# Altium footprint library TerminalBlock_RND.PcbLib: 132 footprints (part 4 of 9)
Each footprint in its own frame and in the unit in brackets; x right, y up, seen from the top. Pads: shape width x height; smd on the part's side, far side on the other; paste and mask are expansions set on the pad; w line width, h text height; cw(c..) or ccw(c..) is an arc to the next point about the centre after c.
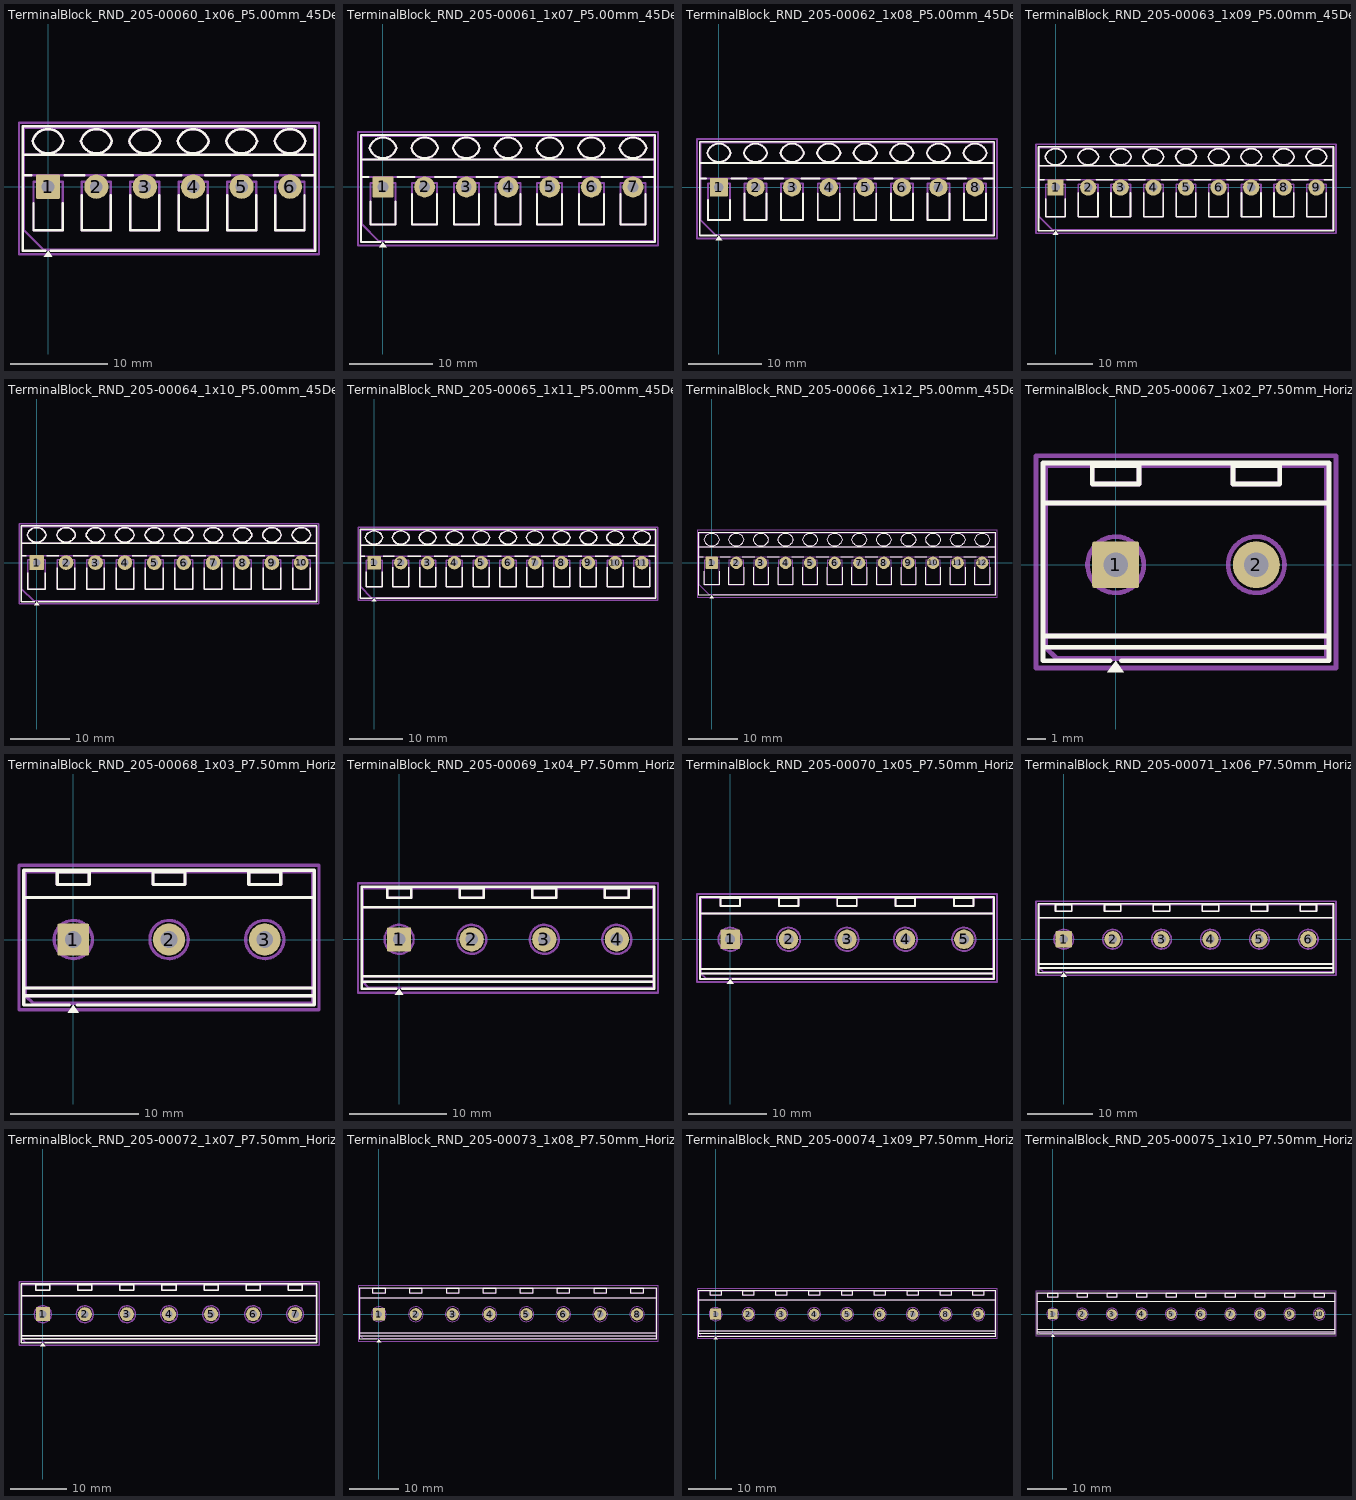
[diagram p3: the footprints below, top view; thin cyan lines are the x and y axes]

## TerminalBlock_RND_205-00060_1x06_P5.00mm_45Degree [mm]
pads (6):
  rrect10% 2.5x2.5 hole 1.3: 1(0,0)
  round 2.5 hole 1.3: 2(5,0) 3(10,0) 4(15,0) 5(20,0) 6(25,0)
F.SilkS:
  region: 0.44,-7.23 -0.44,-7.23 0,-6.62
  lines w0.254: -2.62,1.2 -1.73,1.2 ; -2.62,3.3 27.62,3.3 ; -1.5,-1.73 -1.5,-4.5 1.5,-4.5 1.5,-1.73 ; -0.3,-6.62 -2.62,-6.62 -2.62,6.22 27.62,6.22 27.62,-6.62 0.3,-6.62 ; 1.73,1.2 3.754,1.2 ; 3.5,-0.862 3.5,-4.5 6.5,-4.5 6.5,-0.862 ; 6.246,1.2 8.754,1.2 ; 8.5,-0.862 8.5,-4.5 11.5,-4.5 11.5,-0.862 ; 11.246,1.2 13.754,1.2 ; 13.5,-0.862 13.5,-4.5 16.5,-4.5 16.5,-0.862 ; 16.246,1.2 18.754,1.2 ; 18.5,-0.862 18.5,-4.5 21.5,-4.5 21.5,-0.862 ; 21.246,1.2 23.754,1.2 ; 23.5,-0.862 23.5,-4.5 26.5,-4.5 26.5,-0.862 ; 26.246,1.2 27.62,1.2 ; -1.6,4.7 cw(c0,4.301) 1.6,4.7 cw(c0,5.099) -1.6,4.7 ; 3.4,4.7 cw(c5,4.301) 6.6,4.7 cw(c5,5.099) 3.4,4.7 ; 8.4,4.7 cw(c10,4.301) 11.6,4.7 cw(c10,5.099) 8.4,4.7 ; 13.4,4.7 cw(c15,4.301) 16.6,4.7 cw(c15,5.099) 13.4,4.7 ; 18.4,4.7 cw(c20,4.301) 21.6,4.7 cw(c20,5.099) 18.4,4.7 ; 23.4,4.7 cw(c25,4.301) 26.6,4.7 cw(c25,5.099) 23.4,4.7
F.Fab:
  lines w0.254: -2.5,1.2 27.5,1.2 ; -2.5,3.3 27.5,3.3 ; -2.5,-4.5 -2.5,6.1 27.5,6.1 27.5,-6.5 -0.5,-6.5 -2.5,-4.5 ; -1.6,4.7 cw(c0,4.301) 1.6,4.7 cw(c0,5.099) -1.6,4.7 ; -1.5,-4.5 -1.5,0.5 1.5,0.5 1.5,-4.5 -1.5,-4.5 ; 3.4,4.7 cw(c5,4.301) 6.6,4.7 cw(c5,5.099) 3.4,4.7 ; 3.5,-4.5 3.5,0.5 6.5,0.5 6.5,-4.5 3.5,-4.5 ; 8.4,4.7 cw(c10,4.301) 11.6,4.7 cw(c10,5.099) 8.4,4.7 ; 8.5,-4.5 8.5,0.5 11.5,0.5 11.5,-4.5 8.5,-4.5 ; 13.4,4.7 cw(c15,4.301) 16.6,4.7 cw(c15,5.099) 13.4,4.7 ; 13.5,-4.5 13.5,0.5 16.5,0.5 16.5,-4.5 13.5,-4.5 ; 18.4,4.7 cw(c20,4.301) 21.6,4.7 cw(c20,5.099) 18.4,4.7 ; 18.5,-4.5 18.5,0.5 21.5,0.5 21.5,-4.5 18.5,-4.5 ; 23.4,4.7 cw(c25,4.301) 26.6,4.7 cw(c25,5.099) 23.4,4.7 ; 23.5,-4.5 23.5,0.5 26.5,0.5 26.5,-4.5 23.5,-4.5
  text "'.Designator'" at 8.453,-0.04 h1
F.CrtYd:
  lines w0.254: -3,-7 -3,6.6 28,6.6 28,-7 -3,-7

## TerminalBlock_RND_205-00061_1x07_P5.00mm_45Degree [mm]
pads (7):
  rrect10% 2.5x2.5 hole 1.3: 1(0,0)
  round 2.5 hole 1.3: 2(5,0) 3(10,0) 4(15,0) 5(20,0) 6(25,0) 7(30,0)
F.SilkS:
  region: 0.44,-7.23 -0.44,-7.23 0,-6.62
  lines w0.254: -2.62,1.2 -1.73,1.2 ; -2.62,3.3 32.62,3.3 ; -1.5,-1.73 -1.5,-4.5 1.5,-4.5 1.5,-1.73 ; -0.3,-6.62 -2.62,-6.62 -2.62,6.22 32.62,6.22 32.62,-6.62 0.3,-6.62 ; 1.73,1.2 3.754,1.2 ; 3.5,-0.862 3.5,-4.5 6.5,-4.5 6.5,-0.862 ; 6.246,1.2 8.754,1.2 ; 8.5,-0.862 8.5,-4.5 11.5,-4.5 11.5,-0.862 ; 11.246,1.2 13.754,1.2 ; 13.5,-0.862 13.5,-4.5 16.5,-4.5 16.5,-0.862 ; 16.246,1.2 18.754,1.2 ; 18.5,-0.862 18.5,-4.5 21.5,-4.5 21.5,-0.862 ; 21.246,1.2 23.754,1.2 ; 23.5,-0.862 23.5,-4.5 26.5,-4.5 26.5,-0.862 ; 26.246,1.2 28.754,1.2 ; 28.5,-0.862 28.5,-4.5 31.5,-4.5 31.5,-0.862 ; 31.246,1.2 32.62,1.2 ; -1.6,4.7 cw(c0,4.301) 1.6,4.7 cw(c0,5.099) -1.6,4.7 ; 3.4,4.7 cw(c5,4.301) 6.6,4.7 cw(c5,5.099) 3.4,4.7 ; 8.4,4.7 cw(c10,4.301) 11.6,4.7 cw(c10,5.099) 8.4,4.7 ; 13.4,4.7 cw(c15,4.301) 16.6,4.7 cw(c15,5.099) 13.4,4.7 ; 18.4,4.7 cw(c20,4.301) 21.6,4.7 cw(c20,5.099) 18.4,4.7 ; 23.4,4.7 cw(c25,4.301) 26.6,4.7 cw(c25,5.099) 23.4,4.7 ; 28.4,4.7 cw(c30,4.301) 31.6,4.7 cw(c30,5.099) 28.4,4.7
F.Fab:
  lines w0.254: -2.5,1.2 32.5,1.2 ; -2.5,3.3 32.5,3.3 ; -2.5,-4.5 -2.5,6.1 32.5,6.1 32.5,-6.5 -0.5,-6.5 -2.5,-4.5 ; -1.6,4.7 cw(c0,4.301) 1.6,4.7 cw(c0,5.099) -1.6,4.7 ; -1.5,-4.5 -1.5,0.5 1.5,0.5 1.5,-4.5 -1.5,-4.5 ; 3.4,4.7 cw(c5,4.301) 6.6,4.7 cw(c5,5.099) 3.4,4.7 ; 3.5,-4.5 3.5,0.5 6.5,0.5 6.5,-4.5 3.5,-4.5 ; 8.4,4.7 cw(c10,4.301) 11.6,4.7 cw(c10,5.099) 8.4,4.7 ; 8.5,-4.5 8.5,0.5 11.5,0.5 11.5,-4.5 8.5,-4.5 ; 13.4,4.7 cw(c15,4.301) 16.6,4.7 cw(c15,5.099) 13.4,4.7 ; 13.5,-4.5 13.5,0.5 16.5,0.5 16.5,-4.5 13.5,-4.5 ; 18.4,4.7 cw(c20,4.301) 21.6,4.7 cw(c20,5.099) 18.4,4.7 ; 18.5,-4.5 18.5,0.5 21.5,0.5 21.5,-4.5 18.5,-4.5 ; 23.4,4.7 cw(c25,4.301) 26.6,4.7 cw(c25,5.099) 23.4,4.7 ; 23.5,-4.5 23.5,0.5 26.5,0.5 26.5,-4.5 23.5,-4.5 ; 28.4,4.7 cw(c30,4.301) 31.6,4.7 cw(c30,5.099) 28.4,4.7 ; 28.5,-4.5 28.5,0.5 31.5,0.5 31.5,-4.5 28.5,-4.5
  text "'.Designator'" at 10.953,-0.04 h1
F.CrtYd:
  lines w0.254: -3,-7 -3,6.6 33,6.6 33,-7 -3,-7

## TerminalBlock_RND_205-00062_1x08_P5.00mm_45Degree [mm]
pads (8):
  rrect10% 2.5x2.5 hole 1.3: 1(0,0)
  round 2.5 hole 1.3: 2(5,0) 3(10,0) 4(15,0) 5(20,0) 6(25,0) 7(30,0) 8(35,0)
F.SilkS:
  region: 0.44,-7.23 -0.44,-7.23 0,-6.62
  lines w0.254: -2.62,1.2 -1.73,1.2 ; -2.62,3.3 37.62,3.3 ; -1.5,-1.73 -1.5,-4.5 1.5,-4.5 1.5,-1.73 ; -0.3,-6.62 -2.62,-6.62 -2.62,6.22 37.62,6.22 37.62,-6.62 0.3,-6.62 ; 1.73,1.2 3.754,1.2 ; 3.5,-0.862 3.5,-4.5 6.5,-4.5 6.5,-0.862 ; 6.246,1.2 8.754,1.2 ; 8.5,-0.862 8.5,-4.5 11.5,-4.5 11.5,-0.862 ; 11.246,1.2 13.754,1.2 ; 13.5,-0.862 13.5,-4.5 16.5,-4.5 16.5,-0.862 ; 16.246,1.2 18.754,1.2 ; 18.5,-0.862 18.5,-4.5 21.5,-4.5 21.5,-0.862 ; 21.246,1.2 23.754,1.2 ; 23.5,-0.862 23.5,-4.5 26.5,-4.5 26.5,-0.862 ; 26.246,1.2 28.754,1.2 ; 28.5,-0.862 28.5,-4.5 31.5,-4.5 31.5,-0.862 ; 31.246,1.2 33.754,1.2 ; 33.5,-0.862 33.5,-4.5 36.5,-4.5 36.5,-0.862 ; 36.246,1.2 37.62,1.2 ; -1.6,4.7 cw(c0,4.301) 1.6,4.7 cw(c0,5.099) -1.6,4.7 ; 3.4,4.7 cw(c5,4.301) 6.6,4.7 cw(c5,5.099) 3.4,4.7 ; 8.4,4.7 cw(c10,4.301) 11.6,4.7 cw(c10,5.099) 8.4,4.7 ; 13.4,4.7 cw(c15,4.301) 16.6,4.7 cw(c15,5.099) 13.4,4.7 ; 18.4,4.7 cw(c20,4.301) 21.6,4.7 cw(c20,5.099) 18.4,4.7 ; 23.4,4.7 cw(c25,4.301) 26.6,4.7 cw(c25,5.099) 23.4,4.7 ; 28.4,4.7 cw(c30,4.301) 31.6,4.7 cw(c30,5.099) 28.4,4.7 ; 33.4,4.7 cw(c35,4.301) 36.6,4.7 cw(c35,5.099) 33.4,4.7
F.Fab:
  lines w0.254: -2.5,1.2 37.5,1.2 ; -2.5,3.3 37.5,3.3 ; -2.5,-4.5 -2.5,6.1 37.5,6.1 37.5,-6.5 -0.5,-6.5 -2.5,-4.5 ; -1.6,4.7 cw(c0,4.301) 1.6,4.7 cw(c0,5.099) -1.6,4.7 ; -1.5,-4.5 -1.5,0.5 1.5,0.5 1.5,-4.5 -1.5,-4.5 ; 3.4,4.7 cw(c5,4.301) 6.6,4.7 cw(c5,5.099) 3.4,4.7 ; 3.5,-4.5 3.5,0.5 6.5,0.5 6.5,-4.5 3.5,-4.5 ; 8.4,4.7 cw(c10,4.301) 11.6,4.7 cw(c10,5.099) 8.4,4.7 ; 8.5,-4.5 8.5,0.5 11.5,0.5 11.5,-4.5 8.5,-4.5 ; 13.4,4.7 cw(c15,4.301) 16.6,4.7 cw(c15,5.099) 13.4,4.7 ; 13.5,-4.5 13.5,0.5 16.5,0.5 16.5,-4.5 13.5,-4.5 ; 18.4,4.7 cw(c20,4.301) 21.6,4.7 cw(c20,5.099) 18.4,4.7 ; 18.5,-4.5 18.5,0.5 21.5,0.5 21.5,-4.5 18.5,-4.5 ; 23.4,4.7 cw(c25,4.301) 26.6,4.7 cw(c25,5.099) 23.4,4.7 ; 23.5,-4.5 23.5,0.5 26.5,0.5 26.5,-4.5 23.5,-4.5 ; 28.4,4.7 cw(c30,4.301) 31.6,4.7 cw(c30,5.099) 28.4,4.7 ; 28.5,-4.5 28.5,0.5 31.5,0.5 31.5,-4.5 28.5,-4.5 ; 33.4,4.7 cw(c35,4.301) 36.6,4.7 cw(c35,5.099) 33.4,4.7 ; 33.5,-4.5 33.5,0.5 36.5,0.5 36.5,-4.5 33.5,-4.5
  text "'.Designator'" at 13.453,-0.04 h1
F.CrtYd:
  lines w0.254: -3,-7 -3,6.6 38,6.6 38,-7 -3,-7

## TerminalBlock_RND_205-00063_1x09_P5.00mm_45Degree [mm]
pads (9):
  rrect10% 2.5x2.5 hole 1.3: 1(0,0)
  round 2.5 hole 1.3: 2(5,0) 3(10,0) 4(15,0) 5(20,0) 6(25,0) 7(30,0) 8(35,0) 9(40,0)
F.SilkS:
  region: 0.44,-7.23 -0.44,-7.23 0,-6.62
  lines w0.254: -2.62,1.2 -1.73,1.2 ; -2.62,3.3 42.62,3.3 ; -1.5,-1.73 -1.5,-4.5 1.5,-4.5 1.5,-1.73 ; -0.3,-6.62 -2.62,-6.62 -2.62,6.22 42.62,6.22 42.62,-6.62 0.3,-6.62 ; 1.73,1.2 3.754,1.2 ; 3.5,-0.862 3.5,-4.5 6.5,-4.5 6.5,-0.862 ; 6.246,1.2 8.754,1.2 ; 8.5,-0.862 8.5,-4.5 11.5,-4.5 11.5,-0.862 ; 11.246,1.2 13.754,1.2 ; 13.5,-0.862 13.5,-4.5 16.5,-4.5 16.5,-0.862 ; 16.246,1.2 18.754,1.2 ; 18.5,-0.862 18.5,-4.5 21.5,-4.5 21.5,-0.862 ; 21.246,1.2 23.754,1.2 ; 23.5,-0.862 23.5,-4.5 26.5,-4.5 26.5,-0.862 ; 26.246,1.2 28.754,1.2 ; 28.5,-0.862 28.5,-4.5 31.5,-4.5 31.5,-0.862 ; 31.246,1.2 33.754,1.2 ; 33.5,-0.862 33.5,-4.5 36.5,-4.5 36.5,-0.862 ; 36.246,1.2 38.754,1.2 ; 38.5,-0.862 38.5,-4.5 41.5,-4.5 41.5,-0.862 ; 41.246,1.2 42.62,1.2 ; -1.6,4.7 cw(c0,4.301) 1.6,4.7 cw(c0,5.099) -1.6,4.7 ; 3.4,4.7 cw(c5,4.301) 6.6,4.7 cw(c5,5.099) 3.4,4.7 ; 8.4,4.7 cw(c10,4.301) 11.6,4.7 cw(c10,5.099) 8.4,4.7 ; 13.4,4.7 cw(c15,4.301) 16.6,4.7 cw(c15,5.099) 13.4,4.7 ; 18.4,4.7 cw(c20,4.301) 21.6,4.7 cw(c20,5.099) 18.4,4.7 ; 23.4,4.7 cw(c25,4.301) 26.6,4.7 cw(c25,5.099) 23.4,4.7 ; 28.4,4.7 cw(c30,4.301) 31.6,4.7 cw(c30,5.099) 28.4,4.7 ; 33.4,4.7 cw(c35,4.301) 36.6,4.7 cw(c35,5.099) 33.4,4.7 ; 38.4,4.7 cw(c40,4.301) 41.6,4.7 cw(c40,5.099) 38.4,4.7
F.Fab:
  lines w0.254: -2.5,1.2 42.5,1.2 ; -2.5,3.3 42.5,3.3 ; -2.5,-4.5 -2.5,6.1 42.5,6.1 42.5,-6.5 -0.5,-6.5 -2.5,-4.5 ; -1.6,4.7 cw(c0,4.301) 1.6,4.7 cw(c0,5.099) -1.6,4.7 ; -1.5,-4.5 -1.5,0.5 1.5,0.5 1.5,-4.5 -1.5,-4.5 ; 3.4,4.7 cw(c5,4.301) 6.6,4.7 cw(c5,5.099) 3.4,4.7 ; 3.5,-4.5 3.5,0.5 6.5,0.5 6.5,-4.5 3.5,-4.5 ; 8.4,4.7 cw(c10,4.301) 11.6,4.7 cw(c10,5.099) 8.4,4.7 ; 8.5,-4.5 8.5,0.5 11.5,0.5 11.5,-4.5 8.5,-4.5 ; 13.4,4.7 cw(c15,4.301) 16.6,4.7 cw(c15,5.099) 13.4,4.7 ; 13.5,-4.5 13.5,0.5 16.5,0.5 16.5,-4.5 13.5,-4.5 ; 18.4,4.7 cw(c20,4.301) 21.6,4.7 cw(c20,5.099) 18.4,4.7 ; 18.5,-4.5 18.5,0.5 21.5,0.5 21.5,-4.5 18.5,-4.5 ; 23.4,4.7 cw(c25,4.301) 26.6,4.7 cw(c25,5.099) 23.4,4.7 ; 23.5,-4.5 23.5,0.5 26.5,0.5 26.5,-4.5 23.5,-4.5 ; 28.4,4.7 cw(c30,4.301) 31.6,4.7 cw(c30,5.099) 28.4,4.7 ; 28.5,-4.5 28.5,0.5 31.5,0.5 31.5,-4.5 28.5,-4.5 ; 33.4,4.7 cw(c35,4.301) 36.6,4.7 cw(c35,5.099) 33.4,4.7 ; 33.5,-4.5 33.5,0.5 36.5,0.5 36.5,-4.5 33.5,-4.5 ; 38.4,4.7 cw(c40,4.301) 41.6,4.7 cw(c40,5.099) 38.4,4.7 ; 38.5,-4.5 38.5,0.5 41.5,0.5 41.5,-4.5 38.5,-4.5
  text "'.Designator'" at 15.953,-0.04 h1
F.CrtYd:
  lines w0.254: -3,-7 -3,6.6 43,6.6 43,-7 -3,-7

## TerminalBlock_RND_205-00064_1x10_P5.00mm_45Degree [mm]
pads (10):
  rrect10% 2.5x2.5 hole 1.3: 1(0,0)
  round 2.5 hole 1.3: 2(5,0) 3(10,0) 4(15,0) 5(20,0) 6(25,0) 7(30,0) 8(35,0) 9(40,0) 10(45,0)
F.SilkS:
  region: 0.44,-7.23 -0.44,-7.23 0,-6.62
  lines w0.254: -2.62,1.2 -1.73,1.2 ; -2.62,3.3 47.62,3.3 ; -1.5,-1.73 -1.5,-4.5 1.5,-4.5 1.5,-1.73 ; -0.3,-6.62 -2.62,-6.62 -2.62,6.22 47.62,6.22 47.62,-6.62 0.3,-6.62 ; 1.73,1.2 3.754,1.2 ; 3.5,-0.862 3.5,-4.5 6.5,-4.5 6.5,-0.862 ; 6.246,1.2 8.754,1.2 ; 8.5,-0.862 8.5,-4.5 11.5,-4.5 11.5,-0.862 ; 11.246,1.2 13.754,1.2 ; 13.5,-0.862 13.5,-4.5 16.5,-4.5 16.5,-0.862 ; 16.246,1.2 18.754,1.2 ; 18.5,-0.862 18.5,-4.5 21.5,-4.5 21.5,-0.862 ; 21.246,1.2 23.754,1.2 ; 23.5,-0.862 23.5,-4.5 26.5,-4.5 26.5,-0.862 ; 26.246,1.2 28.754,1.2 ; 28.5,-0.862 28.5,-4.5 31.5,-4.5 31.5,-0.862 ; 31.246,1.2 33.754,1.2 ; 33.5,-0.862 33.5,-4.5 36.5,-4.5 36.5,-0.862 ; 36.246,1.2 38.754,1.2 ; 38.5,-0.862 38.5,-4.5 41.5,-4.5 41.5,-0.862 ; 41.246,1.2 43.754,1.2 ; 43.5,-0.862 43.5,-4.5 46.5,-4.5 46.5,-0.862 ; 46.246,1.2 47.62,1.2 ; -1.6,4.7 cw(c0,4.301) 1.6,4.7 cw(c0,5.099) -1.6,4.7 ; 3.4,4.7 cw(c5,4.301) 6.6,4.7 cw(c5,5.099) 3.4,4.7 ; 8.4,4.7 cw(c10,4.301) 11.6,4.7 cw(c10,5.099) 8.4,4.7 ; 13.4,4.7 cw(c15,4.301) 16.6,4.7 cw(c15,5.099) 13.4,4.7 ; 18.4,4.7 cw(c20,4.301) 21.6,4.7 cw(c20,5.099) 18.4,4.7 ; 23.4,4.7 cw(c25,4.301) 26.6,4.7 cw(c25,5.099) 23.4,4.7 ; 28.4,4.7 cw(c30,4.301) 31.6,4.7 cw(c30,5.099) 28.4,4.7 ; 33.4,4.7 cw(c35,4.301) 36.6,4.7 cw(c35,5.099) 33.4,4.7 ; 38.4,4.7 cw(c40,4.301) 41.6,4.7 cw(c40,5.099) 38.4,4.7 ; 43.4,4.7 cw(c45,4.301) 46.6,4.7 cw(c45,5.099) 43.4,4.7
F.Fab:
  lines w0.254: -2.5,1.2 47.5,1.2 ; -2.5,3.3 47.5,3.3 ; -2.5,-4.5 -2.5,6.1 47.5,6.1 47.5,-6.5 -0.5,-6.5 -2.5,-4.5 ; -1.6,4.7 cw(c0,4.301) 1.6,4.7 cw(c0,5.099) -1.6,4.7 ; -1.5,-4.5 -1.5,0.5 1.5,0.5 1.5,-4.5 -1.5,-4.5 ; 3.4,4.7 cw(c5,4.301) 6.6,4.7 cw(c5,5.099) 3.4,4.7 ; 3.5,-4.5 3.5,0.5 6.5,0.5 6.5,-4.5 3.5,-4.5 ; 8.4,4.7 cw(c10,4.301) 11.6,4.7 cw(c10,5.099) 8.4,4.7 ; 8.5,-4.5 8.5,0.5 11.5,0.5 11.5,-4.5 8.5,-4.5 ; 13.4,4.7 cw(c15,4.301) 16.6,4.7 cw(c15,5.099) 13.4,4.7 ; 13.5,-4.5 13.5,0.5 16.5,0.5 16.5,-4.5 13.5,-4.5 ; 18.4,4.7 cw(c20,4.301) 21.6,4.7 cw(c20,5.099) 18.4,4.7 ; 18.5,-4.5 18.5,0.5 21.5,0.5 21.5,-4.5 18.5,-4.5 ; 23.4,4.7 cw(c25,4.301) 26.6,4.7 cw(c25,5.099) 23.4,4.7 ; 23.5,-4.5 23.5,0.5 26.5,0.5 26.5,-4.5 23.5,-4.5 ; 28.4,4.7 cw(c30,4.301) 31.6,4.7 cw(c30,5.099) 28.4,4.7 ; 28.5,-4.5 28.5,0.5 31.5,0.5 31.5,-4.5 28.5,-4.5 ; 33.4,4.7 cw(c35,4.301) 36.6,4.7 cw(c35,5.099) 33.4,4.7 ; 33.5,-4.5 33.5,0.5 36.5,0.5 36.5,-4.5 33.5,-4.5 ; 38.4,4.7 cw(c40,4.301) 41.6,4.7 cw(c40,5.099) 38.4,4.7 ; 38.5,-4.5 38.5,0.5 41.5,0.5 41.5,-4.5 38.5,-4.5 ; 43.4,4.7 cw(c45,4.301) 46.6,4.7 cw(c45,5.099) 43.4,4.7 ; 43.5,-4.5 43.5,0.5 46.5,0.5 46.5,-4.5 43.5,-4.5
  text "'.Designator'" at 18.453,-0.04 h1
F.CrtYd:
  lines w0.254: -3,-7 -3,6.6 48,6.6 48,-7 -3,-7

## TerminalBlock_RND_205-00065_1x11_P5.00mm_45Degree [mm]
pads (11):
  rrect10% 2.5x2.5 hole 1.3: 1(0,0)
  round 2.5 hole 1.3: 2(5,0) 3(10,0) 4(15,0) 5(20,0) 6(25,0) 7(30,0) 8(35,0) 9(40,0) 10(45,0) 11(50,0)
F.SilkS:
  region: 0.44,-7.23 -0.44,-7.23 0,-6.62
  lines w0.254: -2.62,1.2 -1.73,1.2 ; -2.62,3.3 52.62,3.3 ; -1.5,-1.73 -1.5,-4.5 1.5,-4.5 1.5,-1.73 ; -0.3,-6.62 -2.62,-6.62 -2.62,6.22 52.62,6.22 52.62,-6.62 0.3,-6.62 ; 1.73,1.2 3.754,1.2 ; 3.5,-0.862 3.5,-4.5 6.5,-4.5 6.5,-0.862 ; 6.246,1.2 8.754,1.2 ; 8.5,-0.862 8.5,-4.5 11.5,-4.5 11.5,-0.862 ; 11.246,1.2 13.754,1.2 ; 13.5,-0.862 13.5,-4.5 16.5,-4.5 16.5,-0.862 ; 16.246,1.2 18.754,1.2 ; 18.5,-0.862 18.5,-4.5 21.5,-4.5 21.5,-0.862 ; 21.246,1.2 23.754,1.2 ; 23.5,-0.862 23.5,-4.5 26.5,-4.5 26.5,-0.862 ; 26.246,1.2 28.754,1.2 ; 28.5,-0.862 28.5,-4.5 31.5,-4.5 31.5,-0.862 ; 31.246,1.2 33.754,1.2 ; 33.5,-0.862 33.5,-4.5 36.5,-4.5 36.5,-0.862 ; 36.246,1.2 38.754,1.2 ; 38.5,-0.862 38.5,-4.5 41.5,-4.5 41.5,-0.862 ; 41.246,1.2 43.754,1.2 ; 43.5,-0.862 43.5,-4.5 46.5,-4.5 46.5,-0.862 ; 46.246,1.2 48.754,1.2 ; 48.5,-0.862 48.5,-4.5 51.5,-4.5 51.5,-0.862 ; 51.246,1.2 52.62,1.2 ; -1.6,4.7 cw(c0,4.301) 1.6,4.7 cw(c0,5.099) -1.6,4.7 ; 3.4,4.7 cw(c5,4.301) 6.6,4.7 cw(c5,5.099) 3.4,4.7 ; 8.4,4.7 cw(c10,4.301) 11.6,4.7 cw(c10,5.099) 8.4,4.7 ; 13.4,4.7 cw(c15,4.301) 16.6,4.7 cw(c15,5.099) 13.4,4.7 ; 18.4,4.7 cw(c20,4.301) 21.6,4.7 cw(c20,5.099) 18.4,4.7 ; 23.4,4.7 cw(c25,4.301) 26.6,4.7 cw(c25,5.099) 23.4,4.7 ; 28.4,4.7 cw(c30,4.301) 31.6,4.7 cw(c30,5.099) 28.4,4.7 ; 33.4,4.7 cw(c35,4.301) 36.6,4.7 cw(c35,5.099) 33.4,4.7 ; 38.4,4.7 cw(c40,4.301) 41.6,4.7 cw(c40,5.099) 38.4,4.7 ; 43.4,4.7 cw(c45,4.301) 46.6,4.7 cw(c45,5.099) 43.4,4.7 ; 48.4,4.7 cw(c50,4.301) 51.6,4.7 cw(c50,5.099) 48.4,4.7
F.Fab:
  lines w0.254: -2.5,1.2 52.5,1.2 ; -2.5,3.3 52.5,3.3 ; -2.5,-4.5 -2.5,6.1 52.5,6.1 52.5,-6.5 -0.5,-6.5 -2.5,-4.5 ; -1.6,4.7 cw(c0,4.301) 1.6,4.7 cw(c0,5.099) -1.6,4.7 ; -1.5,-4.5 -1.5,0.5 1.5,0.5 1.5,-4.5 -1.5,-4.5 ; 3.4,4.7 cw(c5,4.301) 6.6,4.7 cw(c5,5.099) 3.4,4.7 ; 3.5,-4.5 3.5,0.5 6.5,0.5 6.5,-4.5 3.5,-4.5 ; 8.4,4.7 cw(c10,4.301) 11.6,4.7 cw(c10,5.099) 8.4,4.7 ; 8.5,-4.5 8.5,0.5 11.5,0.5 11.5,-4.5 8.5,-4.5 ; 13.4,4.7 cw(c15,4.301) 16.6,4.7 cw(c15,5.099) 13.4,4.7 ; 13.5,-4.5 13.5,0.5 16.5,0.5 16.5,-4.5 13.5,-4.5 ; 18.4,4.7 cw(c20,4.301) 21.6,4.7 cw(c20,5.099) 18.4,4.7 ; 18.5,-4.5 18.5,0.5 21.5,0.5 21.5,-4.5 18.5,-4.5 ; 23.4,4.7 cw(c25,4.301) 26.6,4.7 cw(c25,5.099) 23.4,4.7 ; 23.5,-4.5 23.5,0.5 26.5,0.5 26.5,-4.5 23.5,-4.5 ; 28.4,4.7 cw(c30,4.301) 31.6,4.7 cw(c30,5.099) 28.4,4.7 ; 28.5,-4.5 28.5,0.5 31.5,0.5 31.5,-4.5 28.5,-4.5 ; 33.4,4.7 cw(c35,4.301) 36.6,4.7 cw(c35,5.099) 33.4,4.7 ; 33.5,-4.5 33.5,0.5 36.5,0.5 36.5,-4.5 33.5,-4.5 ; 38.4,4.7 cw(c40,4.301) 41.6,4.7 cw(c40,5.099) 38.4,4.7 ; 38.5,-4.5 38.5,0.5 41.5,0.5 41.5,-4.5 38.5,-4.5 ; 43.4,4.7 cw(c45,4.301) 46.6,4.7 cw(c45,5.099) 43.4,4.7 ; 43.5,-4.5 43.5,0.5 46.5,0.5 46.5,-4.5 43.5,-4.5 ; 48.4,4.7 cw(c50,4.301) 51.6,4.7 cw(c50,5.099) 48.4,4.7 ; 48.5,-4.5 48.5,0.5 51.5,0.5 51.5,-4.5 48.5,-4.5
  text "'.Designator'" at 20.953,-0.04 h1
F.CrtYd:
  lines w0.254: -3,-7 -3,6.6 53,6.6 53,-7 -3,-7

## TerminalBlock_RND_205-00066_1x12_P5.00mm_45Degree [mm]
pads (12):
  rrect10% 2.5x2.5 hole 1.3: 1(0,0)
  round 2.5 hole 1.3: 2(5,0) 3(10,0) 4(15,0) 5(20,0) 6(25,0) 7(30,0) 8(35,0) 9(40,0) 10(45,0) 11(50,0) 12(55,0)
F.SilkS:
  region: 0.44,-7.23 -0.44,-7.23 0,-6.62
  lines w0.254: -2.62,1.2 -1.73,1.2 ; -2.62,3.3 57.62,3.3 ; -1.5,-1.73 -1.5,-4.5 1.5,-4.5 1.5,-1.73 ; -0.3,-6.62 -2.62,-6.62 -2.62,6.22 57.62,6.22 57.62,-6.62 0.3,-6.62 ; 1.73,1.2 3.754,1.2 ; 3.5,-0.862 3.5,-4.5 6.5,-4.5 6.5,-0.862 ; 6.246,1.2 8.754,1.2 ; 8.5,-0.862 8.5,-4.5 11.5,-4.5 11.5,-0.862 ; 11.246,1.2 13.754,1.2 ; 13.5,-0.862 13.5,-4.5 16.5,-4.5 16.5,-0.862 ; 16.246,1.2 18.754,1.2 ; 18.5,-0.862 18.5,-4.5 21.5,-4.5 21.5,-0.862 ; 21.246,1.2 23.754,1.2 ; 23.5,-0.862 23.5,-4.5 26.5,-4.5 26.5,-0.862 ; 26.246,1.2 28.754,1.2 ; 28.5,-0.862 28.5,-4.5 31.5,-4.5 31.5,-0.862 ; 31.246,1.2 33.754,1.2 ; 33.5,-0.862 33.5,-4.5 36.5,-4.5 36.5,-0.862 ; 36.246,1.2 38.754,1.2 ; 38.5,-0.862 38.5,-4.5 41.5,-4.5 41.5,-0.862 ; 41.246,1.2 43.754,1.2 ; 43.5,-0.862 43.5,-4.5 46.5,-4.5 46.5,-0.862 ; 46.246,1.2 48.754,1.2 ; 48.5,-0.862 48.5,-4.5 51.5,-4.5 51.5,-0.862 ; 51.246,1.2 53.754,1.2 ; 53.5,-0.862 53.5,-4.5 56.5,-4.5 56.5,-0.862 ; 56.246,1.2 57.62,1.2 ; -1.6,4.7 cw(c0,4.301) 1.6,4.7 cw(c0,5.099) -1.6,4.7 ; 3.4,4.7 cw(c5,4.301) 6.6,4.7 cw(c5,5.099) 3.4,4.7 ; 8.4,4.7 cw(c10,4.301) 11.6,4.7 cw(c10,5.099) 8.4,4.7 ; 13.4,4.7 cw(c15,4.301) 16.6,4.7 cw(c15,5.099) 13.4,4.7 ; 18.4,4.7 cw(c20,4.301) 21.6,4.7 cw(c20,5.099) 18.4,4.7 ; 23.4,4.7 cw(c25,4.301) 26.6,4.7 cw(c25,5.099) 23.4,4.7 ; 28.4,4.7 cw(c30,4.301) 31.6,4.7 cw(c30,5.099) 28.4,4.7 ; 33.4,4.7 cw(c35,4.301) 36.6,4.7 cw(c35,5.099) 33.4,4.7 ; 38.4,4.7 cw(c40,4.301) 41.6,4.7 cw(c40,5.099) 38.4,4.7 ; 43.4,4.7 cw(c45,4.301) 46.6,4.7 cw(c45,5.099) 43.4,4.7 ; 48.4,4.7 cw(c50,4.301) 51.6,4.7 cw(c50,5.099) 48.4,4.7 ; 53.4,4.7 cw(c55,4.301) 56.6,4.7 cw(c55,5.099) 53.4,4.7
F.Fab:
  lines w0.254: -2.5,1.2 57.5,1.2 ; -2.5,3.3 57.5,3.3 ; -2.5,-4.5 -2.5,6.1 57.5,6.1 57.5,-6.5 -0.5,-6.5 -2.5,-4.5 ; -1.6,4.7 cw(c0,4.301) 1.6,4.7 cw(c0,5.099) -1.6,4.7 ; -1.5,-4.5 -1.5,0.5 1.5,0.5 1.5,-4.5 -1.5,-4.5 ; 3.4,4.7 cw(c5,4.301) 6.6,4.7 cw(c5,5.099) 3.4,4.7 ; 3.5,-4.5 3.5,0.5 6.5,0.5 6.5,-4.5 3.5,-4.5 ; 8.4,4.7 cw(c10,4.301) 11.6,4.7 cw(c10,5.099) 8.4,4.7 ; 8.5,-4.5 8.5,0.5 11.5,0.5 11.5,-4.5 8.5,-4.5 ; 13.4,4.7 cw(c15,4.301) 16.6,4.7 cw(c15,5.099) 13.4,4.7 ; 13.5,-4.5 13.5,0.5 16.5,0.5 16.5,-4.5 13.5,-4.5 ; 18.4,4.7 cw(c20,4.301) 21.6,4.7 cw(c20,5.099) 18.4,4.7 ; 18.5,-4.5 18.5,0.5 21.5,0.5 21.5,-4.5 18.5,-4.5 ; 23.4,4.7 cw(c25,4.301) 26.6,4.7 cw(c25,5.099) 23.4,4.7 ; 23.5,-4.5 23.5,0.5 26.5,0.5 26.5,-4.5 23.5,-4.5 ; 28.4,4.7 cw(c30,4.301) 31.6,4.7 cw(c30,5.099) 28.4,4.7 ; 28.5,-4.5 28.5,0.5 31.5,0.5 31.5,-4.5 28.5,-4.5 ; 33.4,4.7 cw(c35,4.301) 36.6,4.7 cw(c35,5.099) 33.4,4.7 ; 33.5,-4.5 33.5,0.5 36.5,0.5 36.5,-4.5 33.5,-4.5 ; 38.4,4.7 cw(c40,4.301) 41.6,4.7 cw(c40,5.099) 38.4,4.7 ; 38.5,-4.5 38.5,0.5 41.5,0.5 41.5,-4.5 38.5,-4.5 ; 43.4,4.7 cw(c45,4.301) 46.6,4.7 cw(c45,5.099) 43.4,4.7 ; 43.5,-4.5 43.5,0.5 46.5,0.5 46.5,-4.5 43.5,-4.5 ; 48.4,4.7 cw(c50,4.301) 51.6,4.7 cw(c50,5.099) 48.4,4.7 ; 48.5,-4.5 48.5,0.5 51.5,0.5 51.5,-4.5 48.5,-4.5 ; 53.4,4.7 cw(c55,4.301) 56.6,4.7 cw(c55,5.099) 53.4,4.7 ; 53.5,-4.5 53.5,0.5 56.5,0.5 56.5,-4.5 53.5,-4.5
  text "'.Designator'" at 23.453,-0.04 h1
F.CrtYd:
  lines w0.254: -3,-7 -3,6.6 58,6.6 58,-7 -3,-7

## TerminalBlock_RND_205-00067_1x02_P7.50mm_Horizontal [mm]
pads (2):
  rrect10% 2.5x2.5 hole 1.3: 1(0,0)
  round 2.5 hole 1.3: 2(7.5,0)
F.SilkS:
  region: 0.44,-5.73 -0.44,-5.73 0,-5.12
  lines w0.254: -3.87,-4.4 11.37,-4.4 ; -3.87,-3.8 11.37,-3.8 ; -3.87,3.3 11.37,3.3 ; -0.3,-5.12 -3.87,-5.12 -3.87,5.42 11.37,5.42 11.37,-5.12 0.3,-5.12 ; -1.25,4.3 -1.25,5.3 1.25,5.3 1.25,4.3 -1.25,4.3 ; 6.25,4.3 6.25,5.3 8.75,5.3 8.75,4.3 6.25,4.3
F.Fab:
  circle w0.254: c0,0 r1.5
  circle w0.254: c7.5,0 r1.5
  lines w0.254: -3.75,-3.8 11.25,-3.8 ; -3.75,3.3 11.25,3.3 ; -1.125,0 1.125,0 ; 0,-1.125 0,1.125 ; 6.375,0 8.625,0 ; 7.5,-1.125 7.5,1.125 ; 11.25,-4.4 -3.75,-4.4 ; -3.75,-4.4 -3.75,5.3 11.25,5.3 11.25,-5 -3.15,-5 -3.75,-4.4 ; -1.25,4.3 -1.25,5.3 1.25,5.3 1.25,4.3 -1.25,4.3 ; 6.25,4.3 6.25,5.3 8.75,5.3 8.75,4.3 6.25,4.3
  text "'.Designator'" at -0.297,-3.69 h1
F.CrtYd:
  lines w0.254: -4.25,-5.5 -4.25,5.81 11.75,5.81 11.75,-5.5 -4.25,-5.5

## TerminalBlock_RND_205-00068_1x03_P7.50mm_Horizontal [mm]
pads (3):
  rrect10% 2.5x2.5 hole 1.3: 1(0,0)
  round 2.5 hole 1.3: 2(7.5,0) 3(15,0)
F.SilkS:
  region: 0.44,-5.73 -0.44,-5.73 0,-5.12
  lines w0.254: -3.87,-4.4 18.87,-4.4 ; -3.87,-3.8 18.87,-3.8 ; -3.87,3.3 18.87,3.3 ; -0.3,-5.12 -3.87,-5.12 -3.87,5.42 18.87,5.42 18.87,-5.12 0.3,-5.12 ; -1.25,4.3 -1.25,5.3 1.25,5.3 1.25,4.3 -1.25,4.3 ; 6.25,4.3 6.25,5.3 8.75,5.3 8.75,4.3 6.25,4.3 ; 13.75,4.3 13.75,5.3 16.25,5.3 16.25,4.3 13.75,4.3
F.Fab:
  circle w0.254: c0,0 r1.5
  circle w0.254: c7.5,0 r1.5
  circle w0.254: c15,0 r1.5
  lines w0.254: -3.75,-3.8 18.75,-3.8 ; -3.75,3.3 18.75,3.3 ; -1.125,0 1.125,0 ; 0,-1.125 0,1.125 ; 6.375,0 8.625,0 ; 7.5,-1.125 7.5,1.125 ; 13.875,0 16.125,0 ; 15,-1.125 15,1.125 ; 18.75,-4.4 -3.75,-4.4 ; -3.75,-4.4 -3.75,5.3 18.75,5.3 18.75,-5 -3.15,-5 -3.75,-4.4 ; -1.25,4.3 -1.25,5.3 1.25,5.3 1.25,4.3 -1.25,4.3 ; 6.25,4.3 6.25,5.3 8.75,5.3 8.75,4.3 6.25,4.3 ; 13.75,4.3 13.75,5.3 16.25,5.3 16.25,4.3 13.75,4.3
  text "'.Designator'" at 3.453,-3.69 h1
F.CrtYd:
  lines w0.254: -4.25,-5.5 -4.25,5.81 19.25,5.81 19.25,-5.5 -4.25,-5.5

## TerminalBlock_RND_205-00069_1x04_P7.50mm_Horizontal [mm]
pads (4):
  rrect10% 2.5x2.5 hole 1.3: 1(0,0)
  round 2.5 hole 1.3: 2(7.5,0) 3(15,0) 4(22.5,0)
F.SilkS:
  region: 0.44,-5.73 -0.44,-5.73 0,-5.12
  lines w0.254: -3.87,-4.4 26.37,-4.4 ; -3.87,-3.8 26.37,-3.8 ; -3.87,3.3 26.37,3.3 ; -0.3,-5.12 -3.87,-5.12 -3.87,5.42 26.37,5.42 26.37,-5.12 0.3,-5.12 ; -1.25,4.3 -1.25,5.3 1.25,5.3 1.25,4.3 -1.25,4.3 ; 6.25,4.3 6.25,5.3 8.75,5.3 8.75,4.3 6.25,4.3 ; 13.75,4.3 13.75,5.3 16.25,5.3 16.25,4.3 13.75,4.3 ; 21.25,4.3 21.25,5.3 23.75,5.3 23.75,4.3 21.25,4.3
F.Fab:
  circle w0.254: c0,0 r1.5
  circle w0.254: c7.5,0 r1.5
  circle w0.254: c15,0 r1.5
  circle w0.254: c22.5,0 r1.5
  lines w0.254: -3.75,-3.8 26.25,-3.8 ; -3.75,3.3 26.25,3.3 ; -1.125,0 1.125,0 ; 0,-1.125 0,1.125 ; 6.375,0 8.625,0 ; 7.5,-1.125 7.5,1.125 ; 13.875,0 16.125,0 ; 15,-1.125 15,1.125 ; 21.375,0 23.625,0 ; 22.5,-1.125 22.5,1.125 ; 26.25,-4.4 -3.75,-4.4 ; -3.75,-4.4 -3.75,5.3 26.25,5.3 26.25,-5 -3.15,-5 -3.75,-4.4 ; -1.25,4.3 -1.25,5.3 1.25,5.3 1.25,4.3 -1.25,4.3 ; 6.25,4.3 6.25,5.3 8.75,5.3 8.75,4.3 6.25,4.3 ; 13.75,4.3 13.75,5.3 16.25,5.3 16.25,4.3 13.75,4.3 ; 21.25,4.3 21.25,5.3 23.75,5.3 23.75,4.3 21.25,4.3
  text "'.Designator'" at 7.203,-3.69 h1
F.CrtYd:
  lines w0.254: -4.25,-5.5 -4.25,5.81 26.75,5.81 26.75,-5.5 -4.25,-5.5

## TerminalBlock_RND_205-00070_1x05_P7.50mm_Horizontal [mm]
pads (5):
  rrect10% 2.5x2.5 hole 1.3: 1(0,0)
  round 2.5 hole 1.3: 2(7.5,0) 3(15,0) 4(22.5,0) 5(30,0)
F.SilkS:
  region: 0.44,-5.73 -0.44,-5.73 0,-5.12
  lines w0.254: -3.87,-4.4 33.87,-4.4 ; -3.87,-3.8 33.87,-3.8 ; -3.87,3.3 33.87,3.3 ; -0.3,-5.12 -3.87,-5.12 -3.87,5.42 33.87,5.42 33.87,-5.12 0.3,-5.12 ; -1.25,4.3 -1.25,5.3 1.25,5.3 1.25,4.3 -1.25,4.3 ; 6.25,4.3 6.25,5.3 8.75,5.3 8.75,4.3 6.25,4.3 ; 13.75,4.3 13.75,5.3 16.25,5.3 16.25,4.3 13.75,4.3 ; 21.25,4.3 21.25,5.3 23.75,5.3 23.75,4.3 21.25,4.3 ; 28.75,4.3 28.75,5.3 31.25,5.3 31.25,4.3 28.75,4.3
F.Fab:
  circle w0.254: c0,0 r1.5
  circle w0.254: c7.5,0 r1.5
  circle w0.254: c15,0 r1.5
  circle w0.254: c22.5,0 r1.5
  circle w0.254: c30,0 r1.5
  lines w0.254: -3.75,-3.8 33.75,-3.8 ; -3.75,3.3 33.75,3.3 ; -1.125,0 1.125,0 ; 0,-1.125 0,1.125 ; 6.375,0 8.625,0 ; 7.5,-1.125 7.5,1.125 ; 13.875,0 16.125,0 ; 15,-1.125 15,1.125 ; 21.375,0 23.625,0 ; 22.5,-1.125 22.5,1.125 ; 28.875,0 31.125,0 ; 30,-1.125 30,1.125 ; 33.75,-4.4 -3.75,-4.4 ; -3.75,-4.4 -3.75,5.3 33.75,5.3 33.75,-5 -3.15,-5 -3.75,-4.4 ; -1.25,4.3 -1.25,5.3 1.25,5.3 1.25,4.3 -1.25,4.3 ; 6.25,4.3 6.25,5.3 8.75,5.3 8.75,4.3 6.25,4.3 ; 13.75,4.3 13.75,5.3 16.25,5.3 16.25,4.3 13.75,4.3 ; 21.25,4.3 21.25,5.3 23.75,5.3 23.75,4.3 21.25,4.3 ; 28.75,4.3 28.75,5.3 31.25,5.3 31.25,4.3 28.75,4.3
  text "'.Designator'" at 10.953,-3.69 h1
F.CrtYd:
  lines w0.254: -4.25,-5.5 -4.25,5.81 34.25,5.81 34.25,-5.5 -4.25,-5.5

## TerminalBlock_RND_205-00071_1x06_P7.50mm_Horizontal [mm]
pads (6):
  rrect10% 2.5x2.5 hole 1.3: 1(0,0)
  round 2.5 hole 1.3: 2(7.5,0) 3(15,0) 4(22.5,0) 5(30,0) 6(37.5,0)
F.SilkS:
  region: 0.44,-5.73 -0.44,-5.73 0,-5.12
  lines w0.254: -3.87,-4.4 41.37,-4.4 ; -3.87,-3.8 41.37,-3.8 ; -3.87,3.3 41.37,3.3 ; -0.3,-5.12 -3.87,-5.12 -3.87,5.42 41.37,5.42 41.37,-5.12 0.3,-5.12 ; -1.25,4.3 -1.25,5.3 1.25,5.3 1.25,4.3 -1.25,4.3 ; 6.25,4.3 6.25,5.3 8.75,5.3 8.75,4.3 6.25,4.3 ; 13.75,4.3 13.75,5.3 16.25,5.3 16.25,4.3 13.75,4.3 ; 21.25,4.3 21.25,5.3 23.75,5.3 23.75,4.3 21.25,4.3 ; 28.75,4.3 28.75,5.3 31.25,5.3 31.25,4.3 28.75,4.3 ; 36.25,4.3 36.25,5.3 38.75,5.3 38.75,4.3 36.25,4.3
F.Fab:
  circle w0.254: c0,0 r1.5
  circle w0.254: c7.5,0 r1.5
  circle w0.254: c15,0 r1.5
  circle w0.254: c22.5,0 r1.5
  circle w0.254: c30,0 r1.5
  circle w0.254: c37.5,0 r1.5
  lines w0.254: -3.75,-3.8 41.25,-3.8 ; -3.75,3.3 41.25,3.3 ; -1.125,0 1.125,0 ; 0,-1.125 0,1.125 ; 6.375,0 8.625,0 ; 7.5,-1.125 7.5,1.125 ; 13.875,0 16.125,0 ; 15,-1.125 15,1.125 ; 21.375,0 23.625,0 ; 22.5,-1.125 22.5,1.125 ; 28.875,0 31.125,0 ; 30,-1.125 30,1.125 ; 36.375,0 38.625,0 ; 37.5,-1.125 37.5,1.125 ; 41.25,-4.4 -3.75,-4.4 ; -3.75,-4.4 -3.75,5.3 41.25,5.3 41.25,-5 -3.15,-5 -3.75,-4.4 ; -1.25,4.3 -1.25,5.3 1.25,5.3 1.25,4.3 -1.25,4.3 ; 6.25,4.3 6.25,5.3 8.75,5.3 8.75,4.3 6.25,4.3 ; 13.75,4.3 13.75,5.3 16.25,5.3 16.25,4.3 13.75,4.3 ; 21.25,4.3 21.25,5.3 23.75,5.3 23.75,4.3 21.25,4.3 ; 28.75,4.3 28.75,5.3 31.25,5.3 31.25,4.3 28.75,4.3 ; 36.25,4.3 36.25,5.3 38.75,5.3 38.75,4.3 36.25,4.3
  text "'.Designator'" at 14.703,-3.69 h1
F.CrtYd:
  lines w0.254: -4.25,-5.5 -4.25,5.81 41.75,5.81 41.75,-5.5 -4.25,-5.5

## TerminalBlock_RND_205-00072_1x07_P7.50mm_Horizontal [mm]
pads (7):
  rrect10% 2.5x2.5 hole 1.3: 1(0,0)
  round 2.5 hole 1.3: 2(7.5,0) 3(15,0) 4(22.5,0) 5(30,0) 6(37.5,0) 7(45,0)
F.SilkS:
  region: 0.44,-5.73 -0.44,-5.73 0,-5.12
  lines w0.254: -3.87,-4.4 48.87,-4.4 ; -3.87,-3.8 48.87,-3.8 ; -3.87,3.3 48.87,3.3 ; -0.3,-5.12 -3.87,-5.12 -3.87,5.42 48.87,5.42 48.87,-5.12 0.3,-5.12 ; -1.25,4.3 -1.25,5.3 1.25,5.3 1.25,4.3 -1.25,4.3 ; 6.25,4.3 6.25,5.3 8.75,5.3 8.75,4.3 6.25,4.3 ; 13.75,4.3 13.75,5.3 16.25,5.3 16.25,4.3 13.75,4.3 ; 21.25,4.3 21.25,5.3 23.75,5.3 23.75,4.3 21.25,4.3 ; 28.75,4.3 28.75,5.3 31.25,5.3 31.25,4.3 28.75,4.3 ; 36.25,4.3 36.25,5.3 38.75,5.3 38.75,4.3 36.25,4.3 ; 43.75,4.3 43.75,5.3 46.25,5.3 46.25,4.3 43.75,4.3
F.Fab:
  circle w0.254: c0,0 r1.5
  circle w0.254: c7.5,0 r1.5
  circle w0.254: c15,0 r1.5
  circle w0.254: c22.5,0 r1.5
  circle w0.254: c30,0 r1.5
  circle w0.254: c37.5,0 r1.5
  circle w0.254: c45,0 r1.5
  lines w0.254: -3.75,-3.8 48.75,-3.8 ; -3.75,3.3 48.75,3.3 ; -1.125,0 1.125,0 ; 0,-1.125 0,1.125 ; 6.375,0 8.625,0 ; 7.5,-1.125 7.5,1.125 ; 13.875,0 16.125,0 ; 15,-1.125 15,1.125 ; 21.375,0 23.625,0 ; 22.5,-1.125 22.5,1.125 ; 28.875,0 31.125,0 ; 30,-1.125 30,1.125 ; 36.375,0 38.625,0 ; 37.5,-1.125 37.5,1.125 ; 43.875,0 46.125,0 ; 45,-1.125 45,1.125 ; 48.75,-4.4 -3.75,-4.4 ; -3.75,-4.4 -3.75,5.3 48.75,5.3 48.75,-5 -3.15,-5 -3.75,-4.4 ; -1.25,4.3 -1.25,5.3 1.25,5.3 1.25,4.3 -1.25,4.3 ; 6.25,4.3 6.25,5.3 8.75,5.3 8.75,4.3 6.25,4.3 ; 13.75,4.3 13.75,5.3 16.25,5.3 16.25,4.3 13.75,4.3 ; 21.25,4.3 21.25,5.3 23.75,5.3 23.75,4.3 21.25,4.3 ; 28.75,4.3 28.75,5.3 31.25,5.3 31.25,4.3 28.75,4.3 ; 36.25,4.3 36.25,5.3 38.75,5.3 38.75,4.3 36.25,4.3 ; 43.75,4.3 43.75,5.3 46.25,5.3 46.25,4.3 43.75,4.3
  text "'.Designator'" at 18.453,-3.69 h1
F.CrtYd:
  lines w0.254: -4.25,-5.5 -4.25,5.81 49.25,5.81 49.25,-5.5 -4.25,-5.5

## TerminalBlock_RND_205-00073_1x08_P7.50mm_Horizontal [mm]
pads (8):
  rrect10% 2.5x2.5 hole 1.3: 1(0,0)
  round 2.5 hole 1.3: 2(7.5,0) 3(15,0) 4(22.5,0) 5(30,0) 6(37.5,0) 7(45,0) 8(52.5,0)
F.SilkS:
  region: 0.44,-5.73 -0.44,-5.73 0,-5.12
  lines w0.254: -3.87,-4.4 56.37,-4.4 ; -3.87,-3.8 56.37,-3.8 ; -3.87,3.3 56.37,3.3 ; -0.3,-5.12 -3.87,-5.12 -3.87,5.42 56.37,5.42 56.37,-5.12 0.3,-5.12 ; -1.25,4.3 -1.25,5.3 1.25,5.3 1.25,4.3 -1.25,4.3 ; 6.25,4.3 6.25,5.3 8.75,5.3 8.75,4.3 6.25,4.3 ; 13.75,4.3 13.75,5.3 16.25,5.3 16.25,4.3 13.75,4.3 ; 21.25,4.3 21.25,5.3 23.75,5.3 23.75,4.3 21.25,4.3 ; 28.75,4.3 28.75,5.3 31.25,5.3 31.25,4.3 28.75,4.3 ; 36.25,4.3 36.25,5.3 38.75,5.3 38.75,4.3 36.25,4.3 ; 43.75,4.3 43.75,5.3 46.25,5.3 46.25,4.3 43.75,4.3 ; 51.25,4.3 51.25,5.3 53.75,5.3 53.75,4.3 51.25,4.3
F.Fab:
  circle w0.254: c0,0 r1.5
  circle w0.254: c7.5,0 r1.5
  circle w0.254: c15,0 r1.5
  circle w0.254: c22.5,0 r1.5
  circle w0.254: c30,0 r1.5
  circle w0.254: c37.5,0 r1.5
  circle w0.254: c45,0 r1.5
  circle w0.254: c52.5,0 r1.5
  lines w0.254: -3.75,-3.8 56.25,-3.8 ; -3.75,3.3 56.25,3.3 ; -1.125,0 1.125,0 ; 0,-1.125 0,1.125 ; 6.375,0 8.625,0 ; 7.5,-1.125 7.5,1.125 ; 13.875,0 16.125,0 ; 15,-1.125 15,1.125 ; 21.375,0 23.625,0 ; 22.5,-1.125 22.5,1.125 ; 28.875,0 31.125,0 ; 30,-1.125 30,1.125 ; 36.375,0 38.625,0 ; 37.5,-1.125 37.5,1.125 ; 43.875,0 46.125,0 ; 45,-1.125 45,1.125 ; 51.375,0 53.625,0 ; 52.5,-1.125 52.5,1.125 ; 56.25,-4.4 -3.75,-4.4 ; -3.75,-4.4 -3.75,5.3 56.25,5.3 56.25,-5 -3.15,-5 -3.75,-4.4 ; -1.25,4.3 -1.25,5.3 1.25,5.3 1.25,4.3 -1.25,4.3 ; 6.25,4.3 6.25,5.3 8.75,5.3 8.75,4.3 6.25,4.3 ; 13.75,4.3 13.75,5.3 16.25,5.3 16.25,4.3 13.75,4.3 ; 21.25,4.3 21.25,5.3 23.75,5.3 23.75,4.3 21.25,4.3 ; 28.75,4.3 28.75,5.3 31.25,5.3 31.25,4.3 28.75,4.3 ; 36.25,4.3 36.25,5.3 38.75,5.3 38.75,4.3 36.25,4.3 ; 43.75,4.3 43.75,5.3 46.25,5.3 46.25,4.3 43.75,4.3 ; 51.25,4.3 51.25,5.3 53.75,5.3 53.75,4.3 51.25,4.3
  text "'.Designator'" at 22.203,-3.69 h1
F.CrtYd:
  lines w0.254: -4.25,-5.5 -4.25,5.81 56.75,5.81 56.75,-5.5 -4.25,-5.5

## TerminalBlock_RND_205-00074_1x09_P7.50mm_Horizontal [mm]
pads (9):
  rrect10% 2.5x2.5 hole 1.3: 1(0,0)
  round 2.5 hole 1.3: 2(7.5,0) 3(15,0) 4(22.5,0) 5(30,0) 6(37.5,0) 7(45,0) 8(52.5,0) 9(60,0)
F.SilkS:
  region: 0.44,-5.73 -0.44,-5.73 0,-5.12
  lines w0.254: -3.87,-4.4 63.87,-4.4 ; -3.87,-3.8 63.87,-3.8 ; -3.87,3.3 63.87,3.3 ; -0.3,-5.12 -3.87,-5.12 -3.87,5.42 63.87,5.42 63.87,-5.12 0.3,-5.12 ; -1.25,4.3 -1.25,5.3 1.25,5.3 1.25,4.3 -1.25,4.3 ; 6.25,4.3 6.25,5.3 8.75,5.3 8.75,4.3 6.25,4.3 ; 13.75,4.3 13.75,5.3 16.25,5.3 16.25,4.3 13.75,4.3 ; 21.25,4.3 21.25,5.3 23.75,5.3 23.75,4.3 21.25,4.3 ; 28.75,4.3 28.75,5.3 31.25,5.3 31.25,4.3 28.75,4.3 ; 36.25,4.3 36.25,5.3 38.75,5.3 38.75,4.3 36.25,4.3 ; 43.75,4.3 43.75,5.3 46.25,5.3 46.25,4.3 43.75,4.3 ; 51.25,4.3 51.25,5.3 53.75,5.3 53.75,4.3 51.25,4.3 ; 58.75,4.3 58.75,5.3 61.25,5.3 61.25,4.3 58.75,4.3
F.Fab:
  circle w0.254: c0,0 r1.5
  circle w0.254: c7.5,0 r1.5
  circle w0.254: c15,0 r1.5
  circle w0.254: c22.5,0 r1.5
  circle w0.254: c30,0 r1.5
  circle w0.254: c37.5,0 r1.5
  circle w0.254: c45,0 r1.5
  circle w0.254: c52.5,0 r1.5
  circle w0.254: c60,0 r1.5
  lines w0.254: -3.75,-3.8 63.75,-3.8 ; -3.75,3.3 63.75,3.3 ; -1.125,0 1.125,0 ; 0,-1.125 0,1.125 ; 6.375,0 8.625,0 ; 7.5,-1.125 7.5,1.125 ; 13.875,0 16.125,0 ; 15,-1.125 15,1.125 ; 21.375,0 23.625,0 ; 22.5,-1.125 22.5,1.125 ; 28.875,0 31.125,0 ; 30,-1.125 30,1.125 ; 36.375,0 38.625,0 ; 37.5,-1.125 37.5,1.125 ; 43.875,0 46.125,0 ; 45,-1.125 45,1.125 ; 51.375,0 53.625,0 ; 52.5,-1.125 52.5,1.125 ; 58.875,0 61.125,0 ; 60,-1.125 60,1.125 ; 63.75,-4.4 -3.75,-4.4 ; -3.75,-4.4 -3.75,5.3 63.75,5.3 63.75,-5 -3.15,-5 -3.75,-4.4 ; -1.25,4.3 -1.25,5.3 1.25,5.3 1.25,4.3 -1.25,4.3 ; 6.25,4.3 6.25,5.3 8.75,5.3 8.75,4.3 6.25,4.3 ; 13.75,4.3 13.75,5.3 16.25,5.3 16.25,4.3 13.75,4.3 ; 21.25,4.3 21.25,5.3 23.75,5.3 23.75,4.3 21.25,4.3 ; 28.75,4.3 28.75,5.3 31.25,5.3 31.25,4.3 28.75,4.3 ; 36.25,4.3 36.25,5.3 38.75,5.3 38.75,4.3 36.25,4.3 ; 43.75,4.3 43.75,5.3 46.25,5.3 46.25,4.3 43.75,4.3 ; 51.25,4.3 51.25,5.3 53.75,5.3 53.75,4.3 51.25,4.3 ; 58.75,4.3 58.75,5.3 61.25,5.3 61.25,4.3 58.75,4.3
  text "'.Designator'" at 25.953,-3.69 h1
F.CrtYd:
  lines w0.254: -4.25,-5.5 -4.25,5.81 64.25,5.81 64.25,-5.5 -4.25,-5.5

## TerminalBlock_RND_205-00075_1x10_P7.50mm_Horizontal [mm]
pads (10):
  rrect10% 2.5x2.5 hole 1.3: 1(0,0)
  round 2.5 hole 1.3: 2(7.5,0) 3(15,0) 4(22.5,0) 5(30,0) 6(37.5,0) 7(45,0) 8(52.5,0) 9(60,0) 10(67.5,0)
F.SilkS:
  region: 0.44,-5.73 -0.44,-5.73 0,-5.12
  lines w0.254: -3.87,-4.4 71.37,-4.4 ; -3.87,-3.8 71.37,-3.8 ; -3.87,3.3 71.37,3.3 ; -0.3,-5.12 -3.87,-5.12 -3.87,5.42 71.37,5.42 71.37,-5.12 0.3,-5.12 ; -1.25,4.3 -1.25,5.3 1.25,5.3 1.25,4.3 -1.25,4.3 ; 6.25,4.3 6.25,5.3 8.75,5.3 8.75,4.3 6.25,4.3 ; 13.75,4.3 13.75,5.3 16.25,5.3 16.25,4.3 13.75,4.3 ; 21.25,4.3 21.25,5.3 23.75,5.3 23.75,4.3 21.25,4.3 ; 28.75,4.3 28.75,5.3 31.25,5.3 31.25,4.3 28.75,4.3 ; 36.25,4.3 36.25,5.3 38.75,5.3 38.75,4.3 36.25,4.3 ; 43.75,4.3 43.75,5.3 46.25,5.3 46.25,4.3 43.75,4.3 ; 51.25,4.3 51.25,5.3 53.75,5.3 53.75,4.3 51.25,4.3 ; 58.75,4.3 58.75,5.3 61.25,5.3 61.25,4.3 58.75,4.3 ; 66.25,4.3 66.25,5.3 68.75,5.3 68.75,4.3 66.25,4.3
F.Fab:
  circle w0.254: c0,0 r1.5
  circle w0.254: c7.5,0 r1.5
  circle w0.254: c15,0 r1.5
  circle w0.254: c22.5,0 r1.5
  circle w0.254: c30,0 r1.5
  circle w0.254: c37.5,0 r1.5
  circle w0.254: c45,0 r1.5
  circle w0.254: c52.5,0 r1.5
  circle w0.254: c60,0 r1.5
  circle w0.254: c67.5,0 r1.5
  lines w0.254: -3.75,-3.8 71.25,-3.8 ; -3.75,3.3 71.25,3.3 ; -1.125,0 1.125,0 ; 0,-1.125 0,1.125 ; 6.375,0 8.625,0 ; 7.5,-1.125 7.5,1.125 ; 13.875,0 16.125,0 ; 15,-1.125 15,1.125 ; 21.375,0 23.625,0 ; 22.5,-1.125 22.5,1.125 ; 28.875,0 31.125,0 ; 30,-1.125 30,1.125 ; 36.375,0 38.625,0 ; 37.5,-1.125 37.5,1.125 ; 43.875,0 46.125,0 ; 45,-1.125 45,1.125 ; 51.375,0 53.625,0 ; 52.5,-1.125 52.5,1.125 ; 58.875,0 61.125,0 ; 60,-1.125 60,1.125 ; 66.375,0 68.625,0 ; 67.5,-1.125 67.5,1.125 ; 71.25,-4.4 -3.75,-4.4 ; -3.75,-4.4 -3.75,5.3 71.25,5.3 71.25,-5 -3.15,-5 -3.75,-4.4 ; -1.25,4.3 -1.25,5.3 1.25,5.3 1.25,4.3 -1.25,4.3 ; 6.25,4.3 6.25,5.3 8.75,5.3 8.75,4.3 6.25,4.3 ; 13.75,4.3 13.75,5.3 16.25,5.3 16.25,4.3 13.75,4.3 ; 21.25,4.3 21.25,5.3 23.75,5.3 23.75,4.3 21.25,4.3 ; 28.75,4.3 28.75,5.3 31.25,5.3 31.25,4.3 28.75,4.3 ; 36.25,4.3 36.25,5.3 38.75,5.3 38.75,4.3 36.25,4.3 ; 43.75,4.3 43.75,5.3 46.25,5.3 46.25,4.3 43.75,4.3 ; 51.25,4.3 51.25,5.3 53.75,5.3 53.75,4.3 51.25,4.3 ; 58.75,4.3 58.75,5.3 61.25,5.3 61.25,4.3 58.75,4.3 ; 66.25,4.3 66.25,5.3 68.75,5.3 68.75,4.3 66.25,4.3
  text "'.Designator'" at 29.703,-3.69 h1
F.CrtYd:
  lines w0.254: -4.25,-5.5 -4.25,5.81 71.75,5.81 71.75,-5.5 -4.25,-5.5